# EAGLE library part LTC4006 (library LTC4006)
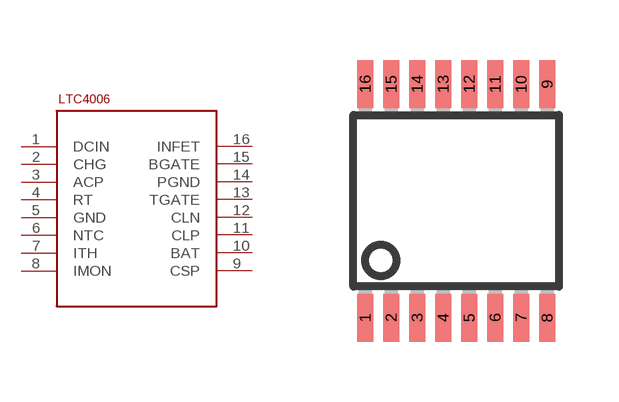
[diagram p282: symbol with the pads of SSOP16; footprint SSOP16]

Designator prefix -

## LTC4006  [SSOP16]
1  DCIN
2  CHG
3  ACP
4  RT
5  GND
6  NTC
7  ITH
8  IMON
9  CSP
10  BAT
11  CLP
12  CLN
13  TGATE
14  PGND
15  BGATE
16  INFET

## Footprint SSOP16 (pad centres in mm)
Small Shrink Outline Package
smd 0.4 x 1.2: 1 -2.275,-2.925; 2 -1.625,-2.925; 3 -0.975,-2.925; 4 -0.325,-2.925; 5 0.325,-2.925; 6 0.975,-2.925; 7 1.625,-2.925; 8 2.275,-2.925; 9 2.275,2.925; 10 1.625,2.925; 11 0.975,2.925; 12 0.325,2.925; 13 -0.325,2.925; 14 -0.975,2.925; 15 -1.625,2.925; 16 -2.275,2.925